# Altium integrated library Intersil RF and IF Demodulator.IntLib: 2 symbols
Pins are listed as number, name and electrical type; pins without a type are passive.

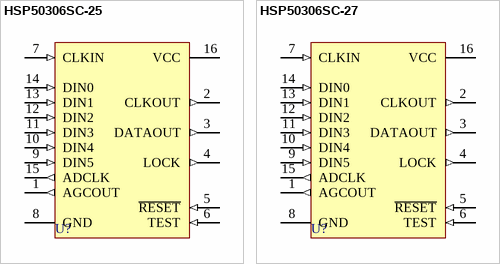
[diagram p0: symbols HSP50306SC-25 to HSP50306SC-27]

## HSP50306SC-25
designator U?
Digital QPSK Demodulator; Published: 17-Jul-2002; LatestRevisionDate: 13-Apr-2006; LatestRevisionNote: IPC-7351 Footprint Added.; DatasheetVersion: Feb-1998; PackageVersion: Dec-1993; PackageReference: M16.3; Publisher: Altium Limited; PackageDescription: 16-Pin Plastic Small Outline Integrated Circuit 1.27 mm Pitch; Code_JEDEC: MS-013-AA; Code_IPC: SOIC127P1030-16; ComponentLink1Description: Manufacturer Link; ComponentLink1URL: http://www.intersil.com/cda/home/
footprint M16.3_N (SOIC, 16-Leads, Body 10.3x7.5mm, Pitch 1.27mm, IPC Medium Density)
footprint M16.3_L (SOIC, 16-Leads, Body 10.3x7.5mm, Pitch 1.27mm, IPC High Density)
footprint M16.3_M (SOIC, 16-Leads, Body 10.3x7.5mm, Pitch 1.27mm, IPC Low Density)
3D model M16_3 (16-Pin Plastic Small Outline Integrated Circuit 1.27 mm Pitch)
pins: 1 AGCOUT (out), 2 CLKOUT (out), 3 DATAOUT (out), 4 LOCK (out), 5 ~{RESET} (in), 6 TEST (in), 7 CLKIN (in), 8 GND (power), 9 DIN5 (in), 10 DIN4 (in), 11 DIN3 (in), 12 DIN2 (in), 13 DIN1 (in), 14 DIN0 (in), 15 ADCLK (out), 16 VCC (power)

## HSP50306SC-27
designator U?
Digital QPSK Demodulator; Published: 17-Jul-2002; LatestRevisionDate: 13-Apr-2006; LatestRevisionNote: IPC-7351 Footprint Added.; DatasheetVersion: Feb-1998; PackageVersion: Dec-1993; PackageReference: M16.3; Publisher: Altium Limited; PackageDescription: 16-Pin Plastic Small Outline Integrated Circuit 1.27 mm Pitch; Code_JEDEC: MS-013-AA; Code_IPC: SOIC127P1030-16; ComponentLink1Description: Manufacturer Link; ComponentLink1URL: http://www.intersil.com/cda/home/
footprint M16.3_N (SOIC, 16-Leads, Body 10.3x7.5mm, Pitch 1.27mm, IPC Medium Density)
footprint M16.3_L (SOIC, 16-Leads, Body 10.3x7.5mm, Pitch 1.27mm, IPC High Density)
footprint M16.3_M (SOIC, 16-Leads, Body 10.3x7.5mm, Pitch 1.27mm, IPC Low Density)
3D model M16_3 (16-Pin Plastic Small Outline Integrated Circuit 1.27 mm Pitch)
pins: 1 AGCOUT (out), 2 CLKOUT (out), 3 DATAOUT (out), 4 LOCK (out), 5 ~{RESET} (in), 6 TEST (in), 7 CLKIN (in), 8 GND (power), 9 DIN5 (in), 10 DIN4 (in), 11 DIN3 (in), 12 DIN2 (in), 13 DIN1 (in), 14 DIN0 (in), 15 ADCLK (out), 16 VCC (power)